# EAGLE library part ISO1050 (library serial_interfaces)
ISO1050 Isolated CAN Transceiver
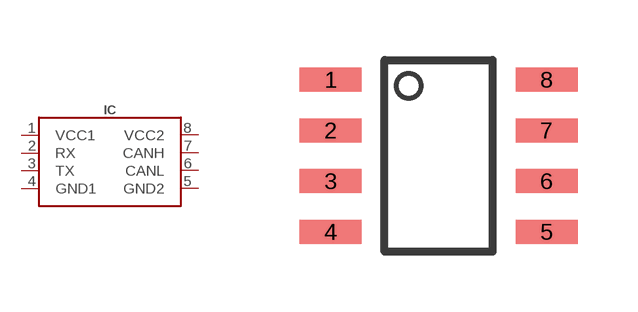
[diagram p14: symbol with the pads of SOIC8; footprint SOIC8]

Designator prefix IC

## ISO1050 (MANF: Texas Instruments; MANF#: ISO1050DUBR (RP))  [SOIC8]
1  VCC1
2  RX
3  TX
4  GND1
5  GND2
6  CANL
7  CANH
8  VCC2

## Footprint SOIC8 (pad centres in mm)
https://www.ti.com/lit/ds/snvsaq5a/snvsaq5a.pdf?ts=1602424164509
smd 1.55 x 0.6: 1 -2.7,1.905; 2 -2.7,0.635; 3 -2.7,-0.635; 4 -2.7,-1.905; 5 2.7,-1.905; 6 2.7,-0.635; 7 2.7,0.635; 8 2.7,1.905